# EAGLE library part OSL641505-BB (library taki-library)
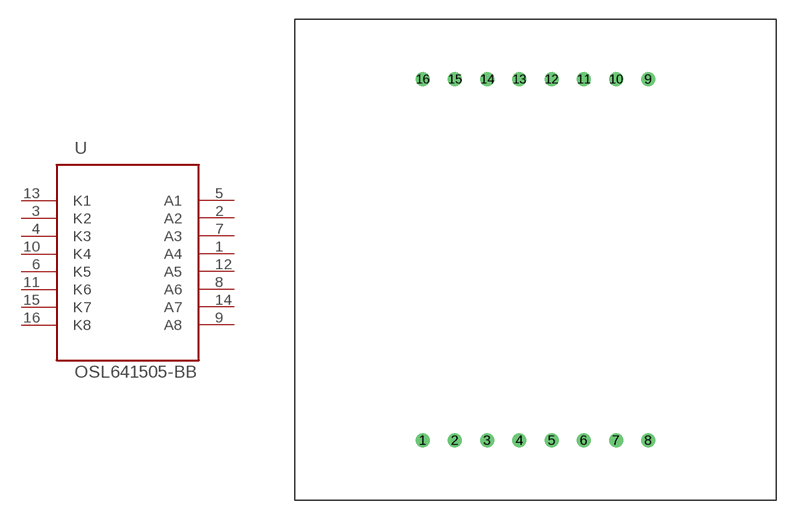
[diagram p22: symbol with the pads of OSL641505-BB; footprint OSL641505-BB]

Designator prefix -

## OSL641505-BB  [OSL641505-BB]
1  A4
2  A2
3  K2
4  K3
5  A1
6  K5
7  A3
8  A6
9  A8
10  K4
11  K6
12  A5
13  K1
14  A7
15  K7
16  K8

## Footprint OSL641505-BB (pad centres in mm)
drill 0.6: 1 -8.89,-14.25; 2 -6.35,-14.25; 3 -3.81,-14.25; 4 -1.27,-14.25; 5 1.27,-14.25; 6 3.81,-14.25; 7 6.35,-14.25; 8 8.89,-14.25; 9 8.89,14.25; 10 6.35,14.25; 11 3.81,14.25; 12 1.27,14.25; 13 -1.27,14.25; 14 -3.81,14.25; 15 -6.35,14.25; 16 -8.89,14.25